# Altium footprint library Support_BAT_1043.PcbLib: 3 footprints
Each footprint in its own frame and in the unit in brackets; x right, y up, seen from the top. Pads: shape width x height; smd on the part's side, far side on the other; paste and mask are expansions set on the pad; w line width, h text height; cw(c..) or ccw(c..) is an arc to the next point about the centre after c.
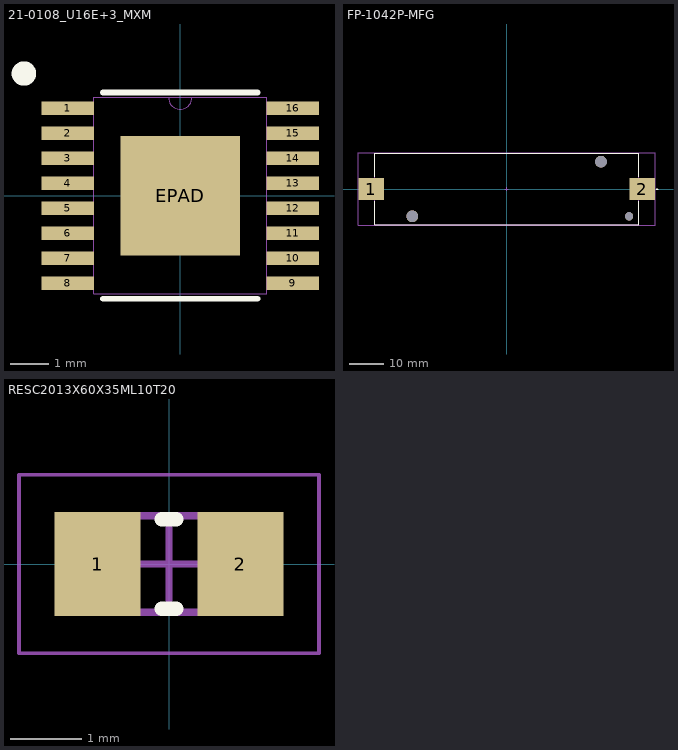
[diagram p0: the footprints below, top view; thin cyan lines are the x and y axes]

## 21-0108_U16E+3_MXM [mil]
pads (17):
  rect 53.5x14 smd paste+0 mask+0: 1(-115.25,89.57) 2(-115.25,63.98) 3(-115.25,38.39) 4(-115.25,12.8) 5(-115.25,-12.8) 6(-115.25,-38.39) 7(-115.25,-63.98) 8(-115.25,-89.57) 9(115.25,-89.57) 10(115.25,-63.98) 11(115.25,-38.39) 12(115.25,-12.8) 13(115.25,12.8) 14(115.25,38.39) 15(115.25,63.98) 16(115.25,89.57)
  rect 122x122 smd paste-60.5 mask+0: EPAD(0,0)
Top Overlay:
  circle w15: c-160,125 r5
  lines w6: -78.92,-105.5 78.92,-105.5 ; -78.92,105.5 78.92,105.5
Top Paste:
  region: 57.06,-3.94 3.94,-3.94 3.94,-57.06 57.06,-57.06
  region: 57.06,57.06 3.94,57.06 3.94,3.94 57.06,3.94
  region: -3.94,-3.94 -57.06,-3.94 -57.06,-57.06 -3.94,-57.06
  region: -3.94,57.06 -57.06,57.06 -57.06,3.94 -3.94,3.94
Mechanical 13:
  lines w0: -12,100.5 ccw(c0,100.5) 12,100.5
  lines w1: -128,-95.57 -88.5,-95.57 -88.5,-83.57 -128,-83.57 -128,-95.57 ; -128,-69.98 -88.5,-69.98 -88.5,-57.98 -128,-57.98 -128,-69.98 ; -128,-44.39 -88.5,-44.39 -88.5,-32.39 -128,-32.39 -128,-44.39 ; -128,-18.8 -88.5,-18.8 -88.5,-6.8 -128,-6.8 -128,-18.8 ; -128,6.8 -88.5,6.8 -88.5,18.8 -128,18.8 -128,6.8 ; -128,32.39 -88.5,32.39 -88.5,44.39 -128,44.39 -128,32.39 ; -128,57.98 -88.5,57.98 -88.5,69.98 -128,69.98 -128,57.98 ; -128,83.57 -88.5,83.57 -88.5,95.57 -128,95.57 -128,83.57 ; -88.5,-100.5 -88.5,100.5 88.5,100.5 88.5,-100.5 -88.5,-100.5 ; 88.5,-95.57 128,-95.57 128,-83.57 88.5,-83.57 88.5,-95.57 ; 88.5,-69.98 128,-69.98 128,-57.98 88.5,-57.98 88.5,-69.98 ; 88.5,-44.39 128,-44.39 128,-32.39 88.5,-32.39 88.5,-44.39 ; 88.5,-18.8 128,-18.8 128,-6.8 88.5,-6.8 88.5,-18.8 ; 88.5,6.8 128,6.8 128,18.8 88.5,18.8 88.5,6.8 ; 88.5,32.39 128,32.39 128,44.39 88.5,44.39 88.5,32.39 ; 88.5,57.98 128,57.98 128,69.98 88.5,69.98 88.5,57.98 ; 88.5,83.57 128,83.57 128,95.57 88.5,95.57 88.5,83.57
3D body "21-0108_U16E+3_MXM.step": height 43.11, standoff -2.01, extent -127.99,-100.51 127.99,100.51

## FP-1042P-MFG [mil]
pads (5):
  rect 294x255 smd paste+0 mask+0: 1(-1562.5,0) 2(1562.5,0)
  round 135.83 hole 135.83 unplated paste-39370.1 mask+0: ""(-1087.5,-315) ""(1087.5,315)
  round 94 hole 94 unplated paste-39370.1 mask+0: ""(1411.5,-315)
Top Overlay:
  lines w7.87: -1522,-142.13 -1522,-411.5 1522,-411.5 1522,-142.13 ; -1522,142.13 -1522,411.5 1522,411.5 1522,142.13 ; 1725.39,0 1745.08,0 ; 1735.24,-9.84 1735.24,9.84
Top 3D Body:
  lines w7.87: -1522,-411.5 -1522,411.5 1522,411.5 1522,-411.5 -1522,-411.5
Top Component Center:
  lines w3.94: -19.68,0 19.68,0 ; 0,-19.68 0,19.68
Top Assembly:
  lines w7.87: -1713.44,-415.44 -1713.44,415.44 1713.44,415.44 1713.44,-415.44 -1713.44,-415.44
  text ".Designator" at 0,0 h39.37
Top Courtyard:
  lines w7.87: -1713.44,-415.44 -1713.44,415.44 1713.44,415.44 1713.44,-415.44 -1713.44,-415.44
3D body "Batt_Keystone_1042P_eec.STEP": height 10, standoff 0, extent -1713.44,-415.44 1713.44,415.44

## RESC2013X60X35ML10T20 [mm] "Chip Resistor, 2-Leads, Body 2.1x1.35mm, IPC Low Density"
height 0.6
pads (2):
  rect 1.2x1.45 smd: 1(-1,0) 2(1,0)
Top Overlay:
  lines w0.2: -0.1,-0.625 0.1,-0.625 ; -0.1,0.625 0.1,0.625
Mechanical 13:
  lines w0.1: -1.05,-0.675 -1.05,0.675 1.05,0.675 1.05,-0.675 -1.05,-0.675
Mechanical 15:
  lines w0.05: -2.1,-1.25 -2.1,1.25 2.1,1.25 2.1,-1.25 -2.1,-1.25
  lines w0.1: -0.5,0 0.5,0 ; 0,-0.5 0,0.5
3D body "RESC2012X06N.step": height 0.6, standoff 0, extent -1.05,-0.675 1.05,0.675